# Altium footprint library pcb_component.PcbLib: 38 footprints (part 1 of 3)
Each footprint in its own frame and in the unit in brackets; x right, y up, seen from the top. Pads: shape width x height; smd on the part's side, far side on the other; paste and mask are expansions set on the pad; w line width, h text height; cw(c..) or ccw(c..) is an arc to the next point about the centre after c.
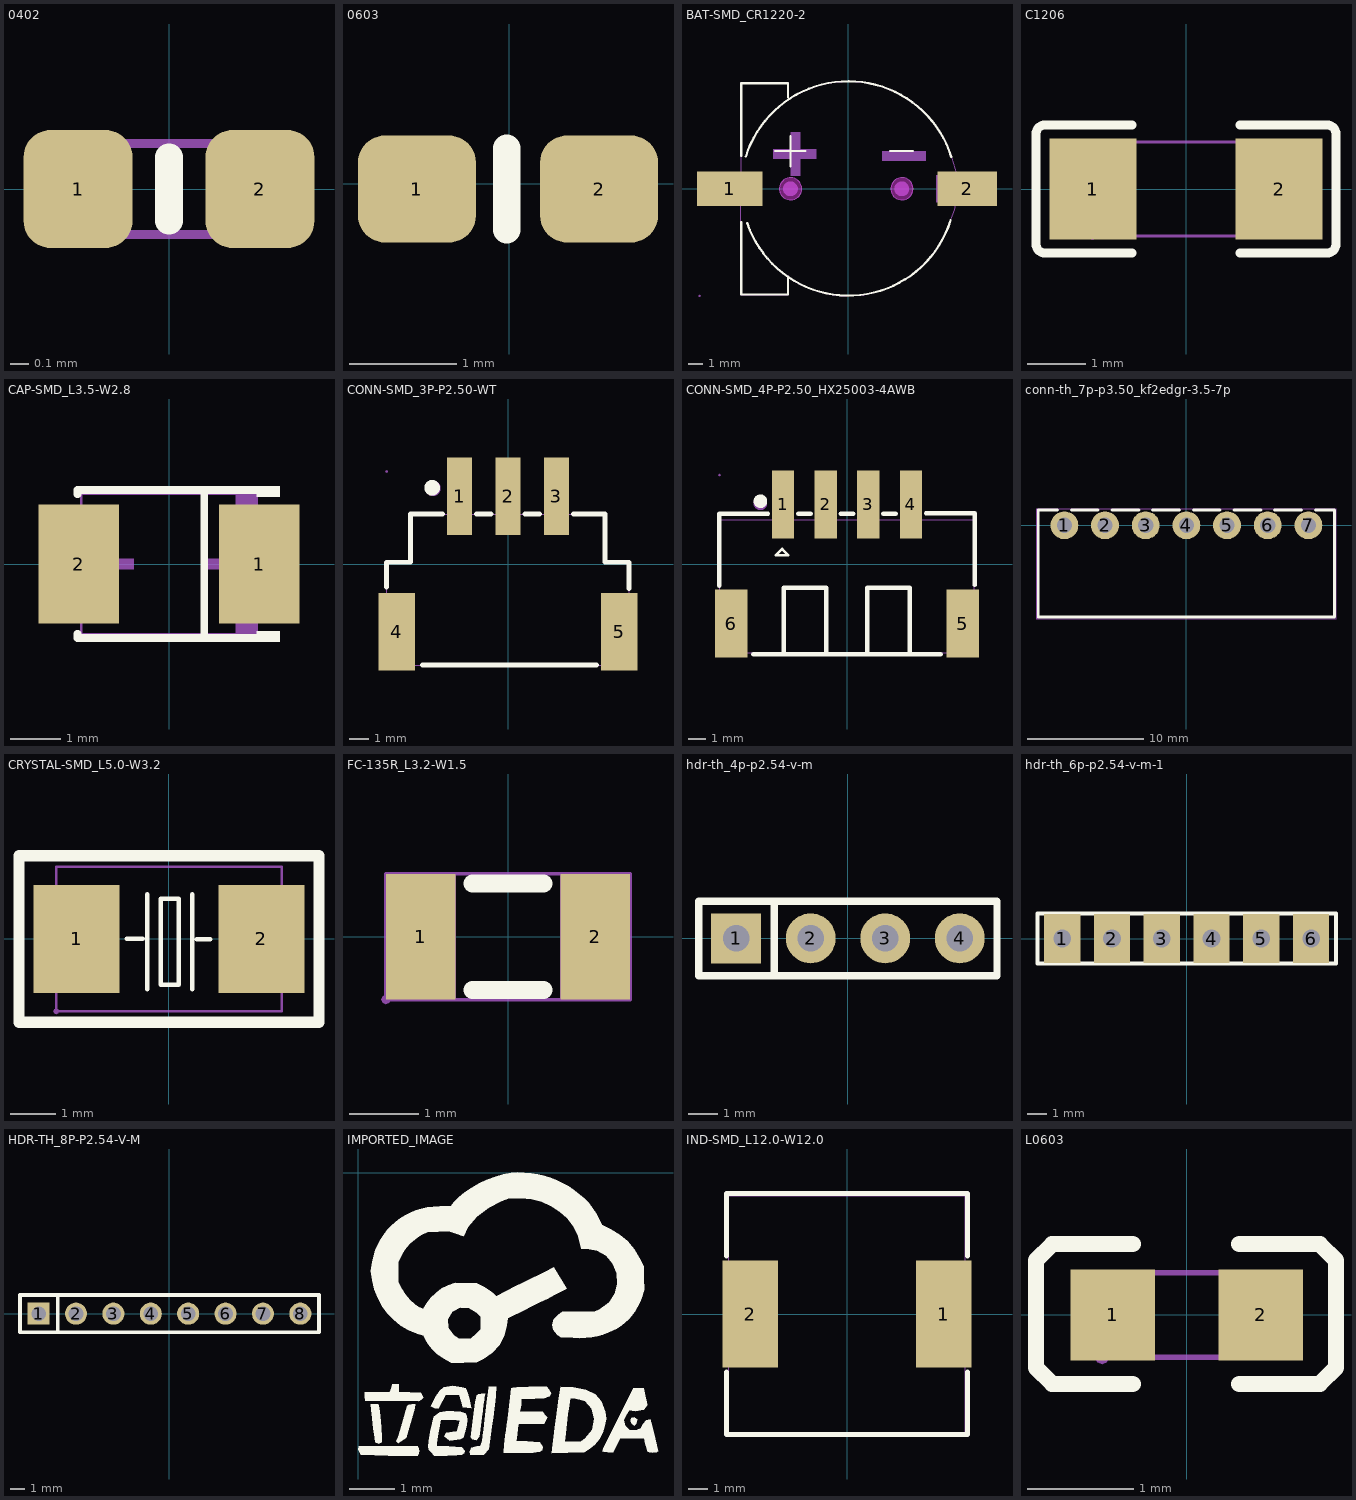
[diagram p0: the footprints below, top view; thin cyan lines are the x and y axes]

## 0402 [mm]
pads (2):
  rrect50% 0.6x0.65 smd paste+0.102 mask+0.051: 1(-0.5,0) 2(0.5,0)
Top Overlay:
  lines w0.152: 0,-0.175 0,0.175
Mechanical 15:
  lines w0.05: -0.5,-0.25 -0.5,0.25 0.5,0.25 0.5,-0.25 -0.5,-0.25

## 0603 [mm]
pads (2):
  rrect50% 1.1x1 smd: 1(-0.864,-0.051) 2(0.836,-0.051)
Top Overlay:
  lines w0.254: -0.025,-0.432 -0.025,0.33

## BAT-SMD_CR1220-2 [mm]
pads (2):
  rect 4.4x2.3 smd paste+0 mask+0.05: 1(-8,0)
  rect 4x2.3 smd paste+0 mask+0.05: 2(8,0)
Top Overlay:
  lines w0.15: -7.22,-2.231 -7.22,-7.112 -4.064,-7.112 -4.064,-5.912 ; -7.22,2.231 -7.22,7.112 -4.064,7.112 -4.064,6.171 ; -6.911,2.175 cw(c0,0) 6.918,2.154 ; -6.815,-2.297 ccw(c0,0) 6.871,-2.124 ; -4.928,2.54 -2.896,2.54 ; -3.912,1.524 -3.912,3.556 ; 2.819,2.54 4.343,2.54
Keep-Out Layer:
  board cut-out: -3.9,0.756 -4.096,0.731 -4.278,0.655 -4.435,0.535 -4.555,0.378 -4.631,0.196 -4.656,0 -4.631,-0.196 -4.555,-0.378 -4.435,-0.535 -4.278,-0.655 -4.096,-0.731 -3.9,-0.756 -3.704,-0.731 -3.522,-0.655 -3.365,-0.535 -3.245,-0.378 -3.169,-0.196 -3.143,0 -3.169,0.196 -3.245,0.378 -3.365,0.535 -3.522,0.655 -3.704,0.731
  board cut-out: 3.6,0.756 3.404,0.731 3.222,0.655 3.065,0.535 2.945,0.378 2.869,0.196 2.843,0 2.869,-0.196 2.945,-0.378 3.065,-0.535 3.222,-0.655 3.404,-0.731 3.6,-0.756 3.796,-0.731 3.978,-0.655 4.135,-0.535 4.255,-0.378 4.331,-0.196 4.356,0 4.331,0.196 4.255,0.378 4.135,0.535 3.978,0.655 3.796,0.731
Mechanical 1:
  circle w0.005: c-3.9,0 r0.75
  circle w0.005: c3.6,0 r0.75
Mechanical 6:
  circle w0.5: c-3.912,0 r0.25
  circle w0.5: c3.581,0 r0.25
  region: 2.271,2.516 5.192,2.516 5.192,1.881 2.271,1.881
  region: -3.898,0.873 -3.898,3.794 -3.263,3.794 -3.263,0.873
  region: -5.08,2.667 -2.159,2.667 -2.159,2.032 -5.08,2.032
Mechanical 15:
  region: -10.02,0.9 -6.62,0.9 -6.62,-0.9 -10.02,-0.9
  region: 9.32,-0.9 5.92,-0.9 5.92,0.9 9.32,0.9
  region: -10.02,-7.141 -10.066,-7.16 -10.085,-7.206 -10.066,-7.252 -10.02,-7.271 -9.974,-7.252 -9.955,-7.206 -9.974,-7.16
  lines w0.051: -7.227,7.142 -7.227,-0.511 -7.239,-0.523 -7.239,-7.127 -4.064,-7.127 -4.064,-5.857 -4.04,-5.967 -3.896,-6.049 -3.645,-6.212 -3.131,-6.487 -2.614,-6.711 -2.092,-6.898 -1.568,-7.029 -1.045,-7.132 -0.521,-7.188 0.003,-7.206 0.544,-7.183 1.092,-7.119 2.165,-6.879 3.118,-6.481 3.59,-6.24 4.033,-5.951 4.359,-5.715 4.665,-5.454 4.979,-5.172 5.277,-4.874 5.559,-4.55 5.813,-4.226 6.281,-3.543 6.681,-2.672 6.986,-1.838 7.156,-1.399 7.258,-0.92 7.334,-0.461 7.382,-0.006 7.344,0.515 7.241,1.031 6.938,2.064 6.671,2.831 6.281,3.597 5.711,4.465 5.066,5.174 4.691,5.512 4.304,5.829 3.437,6.38 2.616,6.754 2.202,6.897 1.772,7.015 1.359,7.11 0.92,7.185 0.047,7.243 -0.43,7.221 -0.913,7.183 -1.372,7.108 -1.822,7.001 -2.26,6.874 -2.705,6.719 -3.533,6.328 -3.737,6.213 -3.892,6.12 -4.034,6.026 -4.029,6.158 -4.029,7.138 -4.025,7.143 -7.227,7.143 ; -7.227,7.142 -7.227,7.143
Multi-Layer:
  pour cut-out: -3.9,0.756 -4.096,0.731 -4.278,0.655 -4.435,0.535 -4.555,0.378 -4.631,0.196 -4.656,0 -4.631,-0.196 -4.555,-0.378 -4.435,-0.535 -4.278,-0.655 -4.096,-0.731 -3.9,-0.756 -3.704,-0.731 -3.522,-0.655 -3.365,-0.535 -3.245,-0.378 -3.169,-0.196 -3.143,0 -3.169,0.196 -3.245,0.378 -3.365,0.535 -3.522,0.655 -3.704,0.731
  pour cut-out: 3.6,0.756 3.404,0.731 3.222,0.655 3.065,0.535 2.945,0.378 2.869,0.196 2.843,0 2.869,-0.196 2.945,-0.378 3.065,-0.535 3.222,-0.655 3.404,-0.731 3.6,-0.756 3.796,-0.731 3.978,-0.655 4.135,-0.535 4.255,-0.378 4.331,-0.196 4.356,0 4.331,0.196 4.255,0.378 4.135,0.535 3.978,0.655 3.796,0.731

## C1206 [mm]
pads (2):
  rect 1.485x1.728 smd paste-100 mask+0.051: 1(-1.593,0) 2(1.593,0)
Top Overlay:
  lines w0.152: -0.926,-1.093 -2.411,-1.093 cw(c-2.411,-0.94) -2.564,-0.94 -2.564,0.94 cw(c-2.411,0.94) -2.411,1.093 -0.926,1.093 ; 0.926,-1.093 2.411,-1.093 ccw(c2.411,-0.94) 2.564,-0.94 2.564,0.94 ccw(c2.411,0.94) 2.411,1.093 0.926,1.093
Top Paste:
  region: 0.85,-0.764 0.85,-0.394 0.95,-0.294 1.255,-0.294 1.355,-0.194 1.355,0.194 1.255,0.294 0.95,0.294 0.85,0.394 0.85,0.764 0.95,0.864 2.235,0.864 2.335,0.764 2.335,-0.764 2.235,-0.864 0.95,-0.864
  region: -0.85,-0.764 -0.85,-0.394 -0.95,-0.294 -1.255,-0.294 -1.355,-0.194 -1.355,0.194 -1.255,0.294 -0.95,0.294 -0.85,0.394 -0.85,0.764 -0.95,0.864 -2.235,0.864 -2.335,0.764 -2.335,-0.764 -2.235,-0.864 -0.95,-0.864
Mechanical 15:
  region: -1.665,-0.8 -1.646,-0.846 -1.6,-0.865 -1.554,-0.846 -1.535,-0.8 -1.554,-0.754 -1.6,-0.735 -1.646,-0.754
  region: -1.6,-0.8 -1.6,0.8 -1.1,0.8 -1.1,-0.8
  region: 1.6,-0.8 1.6,0.8 1.1,0.8 1.1,-0.8
  lines w0.051: -1.6,-0.8 -1.6,0.8 1.6,0.8 1.6,-0.8 -1.6,-0.8

## CAP-SMD_L3.5-W2.8 [mm]
pads (2):
  rect 1.607x2.376 smd paste+0 mask+0.051: 1(1.804,0) 2(-1.804,0)
Top Overlay:
  region: 1.75,-1.552 1.75,-1.34 2.207,-1.34 2.207,-1.552
  region: 1.75,1.552 1.75,1.34 2.207,1.34 2.207,1.552
  lines w0.152: -1.826,-1.391 -1.826,-1.476 1.826,-1.476 ; -1.826,1.391 -1.826,1.476 1.826,1.476 ; 0.704,-1.476 0.704,1.476
Mechanical 6:
  region: 1.75,1.4 1.75,0.7 1.33,0.7 1.33,1.4
  region: 1.75,-1.4 1.75,-0.7 1.33,-0.7 1.33,-1.4
  region: 1.225,-0.7 1.225,0.7 1.015,0.7 1.015,-0.7
  region: 1.54,-0.105 1.54,0.105 0.7,0.105 0.7,-0.105
  region: -1.54,-0.105 -1.54,0.105 -0.7,0.105 -0.7,-0.105
Mechanical 15:
  region: 1.75,1.335 1.796,1.354 1.815,1.4 1.796,1.446 1.75,1.465 1.704,1.446 1.685,1.4 1.704,1.354
  region: 1.75,-1.1 1.75,1.1 1,1.1 1,-1.1
  region: -1.75,-1.1 -1.75,1.1 -1,1.1 -1,-1.1
  lines w0.051: -1.75,-1.4 -1.75,1.4 1.75,1.4 1.75,-1.4 -1.75,-1.4

## CONN-SMD_3P-P2.50-WT [mm]
pads (5):
  rect 1.3x4 smd paste+0 mask+0.051: 1(-2.5,3.5) 2(0,3.5) 3(2.5,3.5)
  rect 1.9x4 smd paste+0 mask+0.051: 4(-5.75,-3.5) 5(5.75,-3.5)
Top Overlay:
  circle w0.4: c-3.92,3.94 r0.2
  lines w0.254: -6.28,-1.18 -6.28,0.09 -5.04,0.09 -5.04,2.58 -3.381,2.58 ; -4.42,-5.22 4.58,-5.22 ; -1.619,2.58 -0.881,2.58 ; 0.881,2.58 1.619,2.58 ; 3.381,2.58 5.02,2.58 5.02,0.09 6.26,0.09 6.26,-1.28
Mechanical 6:
  circle w0.4: c-3.88,3.91 r0.2
Mechanical 15:
  region: -6.335,4.78 -6.316,4.826 -6.27,4.845 -6.224,4.826 -6.205,4.78 -6.224,4.734 -6.27,4.715 -6.316,4.734
  region: -0.32,4.78 0.32,4.78 0.32,1.78 -0.32,1.78
  region: -2.82,4.78 -2.18,4.78 -2.18,1.78 -2.82,1.78
  region: 5.55,-1.72 5.95,-1.72 5.95,-5.22 5.55,-5.22
  region: -5.95,-1.72 -5.55,-1.72 -5.55,-5.22 -5.95,-5.22
  region: 2.18,4.78 2.82,4.78 2.82,1.78 2.18,1.78
  lines w0.051: -6.27,-4.52 -5.42,-4.52 -5.41,-4.53 -5.42,-5.22 5.42,-5.22 5.42,-5.16 5.42,-4.52 6.27,-4.52 6.27,0.08 5.01,0.08 5.01,2.58 -5.01,2.58 -5.01,0.08 -6.27,0.08 -6.27,-4.52

## CONN-SMD_4P-P2.50_HX25003-4AWB [mm]
pads (6):
  rect 1.3x4 smd paste+0 mask+0.051: 1(-3.75,3.5) 2(-1.25,3.5) 3(1.25,3.5) 4(3.75,3.5)
  rect 1.9x4 smd paste+0 mask+0.051: 5(6.8,-3.5) 6(-6.8,-3.5)
Top Overlay:
  circle w0.4: c-5.08,3.683 r0.2
  lines w0.15: -4.191,0.508 -3.438,0.508 -3.81,0.889 -4.191,0.508
  lines w0.254: -7.5,-1.269 -7.5,2.95 -4.631,2.95 ; -5.5,-5.3 5.5,-5.3 ; -3.709,-5.3 -3.709,-1.397 -1.223,-1.397 -1.223,-5.3 ; -2.869,2.95 -2.131,2.95 ; -0.369,2.95 0.369,2.95 ; 1.197,-5.266 1.197,-1.397 3.683,-1.397 3.683,-5.266 ; 2.131,2.95 2.869,2.95 ; 4.631,2.984 7.5,2.984 7.5,-1.235
Mechanical 6:
  circle w0.4: c-5.08,3.556 r0.2
Mechanical 15:
  region: -7.41,5.22 -7.429,5.174 -7.475,5.155 -7.521,5.174 -7.54,5.22 -7.521,5.266 -7.475,5.285 -7.429,5.266
  region: 3.45,5.22 4.05,5.22 4.05,2.22 3.45,2.22
  region: 0.95,5.22 1.55,5.22 1.55,2.22 0.95,2.22
  region: -1.55,5.22 -0.95,5.22 -0.95,2.22 -1.55,2.22
  region: -4.05,5.22 -3.45,5.22 -3.45,2.22 -4.05,2.22
  region: 6.4,-2 6.8,-2 6.8,-5 6.4,-5
  region: -6.8,-2 -6.4,-2 -6.4,-5 -6.8,-5
  lines w0.051: -7.475,-5.208 -7.475,2.592 7.475,2.592 7.475,-5.208 -7.475,-5.208

## conn-th_7p-p3.50_kf2edgr-3.5-7p [mm]
pads (7):
  round 2.4 / inner round 1.524 / far side round 1.524 hole 1.3 paste+0 mask+0.051: 1(-10.5,0) 2(-7,0) 3(-3.5,0) 4(0,0) 5(3.5,0) 6(7,0) 7(10.5,0)
Top Overlay:
  lines w0.254: -11.095,1.3 -12.75,1.3 -12.75,-7.9 12.75,-7.9 12.75,1.3 11.095,1.3 ; -9.905,1.3 -7.595,1.3 ; -6.405,1.3 -4.095,1.3 ; -2.905,1.3 -0.595,1.3 ; 0.595,1.3 2.905,1.3 ; 4.095,1.3 6.405,1.3 ; 7.595,1.3 9.905,1.3
Mechanical 15:
  drawing of 12 lines, arcs and shapes, not listed

## CRYSTAL-SMD_L5.0-W3.2 [mm]
pads (2):
  rect 1.9x2.4 smd paste+0 mask+0.051: 1(-2.05,0) 2(2.05,0)
Top Overlay:
  lines w0.1: -0.94,0 -0.584,0 ; -0.483,-1.109 -0.483,0.991 ; 0.517,-1.109 0.517,0.991 ; 0.617,-0.009 0.917,-0.009 ; -0.183,-1.009 -0.183,0.89 0.217,0.89 0.217,-1.009 -0.183,-1.009
  lines w0.254: -3.325,-1.85 3.325,-1.85 3.325,-0.7 3.325,0.7 3.325,1.85 -3.325,1.85 -3.325,0.7 -3.325,-0.7 -3.325,-1.85
Mechanical 15:
  region: -2.565,-1.6 -2.546,-1.646 -2.5,-1.665 -2.454,-1.646 -2.435,-1.6 -2.454,-1.554 -2.5,-1.535 -2.546,-1.554
  region: -2.4,1 -1.3,1 -1.3,-1 -2.4,-1
  region: 1.3,1 2.4,1 2.4,-1 1.3,-1
  lines w0.051: -2.5,-1.6 -2.5,1.6 2.5,1.6 2.5,-1.6 -2.5,-1.6

## FC-135R_L3.2-W1.5 [mm]
pads (2):
  rect 1x1.8 smd paste+0 mask+0.051: 1(-1.25,0) 2(1.25,0)
Top Overlay:
  lines w0.254: -0.508,-0.762 0.508,-0.762 ; -0.508,0.762 0.508,0.762
Mechanical 15:
  region: -1.75,-0.835 -1.796,-0.854 -1.815,-0.9 -1.796,-0.946 -1.75,-0.965 -1.704,-0.946 -1.685,-0.9 -1.704,-0.854
  region: -1.75,-0.9 -1.75,0.9 -0.75,0.9 -0.75,-0.9
  region: 0.75,-0.9 0.75,0.9 1.75,0.9 1.75,-0.9
  lines w0.051: -1.75,-0.9 1.75,-0.9 1.75,0.9 -1.75,0.9 -1.75,-0.9

## hdr-th_4p-p2.54-v-m [mm]
pads (4):
  rect 1.7x1.7 / inner round 1.524 / far side round 1.524 hole 0.9 paste+0 mask+0.051: 1(-3.81,0)
  round 1.7 / inner round 1.524 / far side round 1.524 hole 0.9 paste+0 mask+0.051: 2(-1.27,0) 3(1.27,0) 4(3.81,0)
Top Overlay:
  lines w0.254: -2.516,-1.27 -2.516,1.27 ; -2.516,1.27 5.08,1.27 5.08,-1.27 -5.08,-1.27 -5.08,1.27 -2.516,1.27
Mechanical 15:
  region: -5.08,-1.315 -5.034,-1.296 -5.015,-1.25 -5.034,-1.204 -5.08,-1.185 -5.126,-1.204 -5.145,-1.25 -5.126,-1.296
  region: -4.13,0.32 -3.49,0.32 -3.49,-0.32 -4.13,-0.32
  region: -1.59,0.32 -0.95,0.32 -0.95,-0.32 -1.59,-0.32
  region: 0.95,0.32 1.59,0.32 1.59,-0.32 0.95,-0.32
  region: 3.49,0.32 4.13,0.32 4.13,-0.32 3.49,-0.32
  lines w0.051: -5.08,-1.25 -5.08,1.25 5.08,1.25 5.08,-1.25 -5.08,-1.25

## hdr-th_6p-p2.54-v-m-1 [mm]
pads (6):
  rect 1.85x2.5 / inner round 1.524 / far side round 1.524 hole 0.9 paste+0 mask+0.051: 1(-6.35,0) 2(-3.81,0) 3(-1.27,0) 4(1.27,0) 5(3.81,0) 6(6.35,0)
Top Overlay:
  lines w0.203: -7.62,-1.27 7.62,-1.27 7.62,1.27 -5.715,1.27 -7.62,1.27 -7.62,-1.27
Mechanical 15:
  region: 6.03,0.32 6.67,0.32 6.67,-0.32 6.03,-0.32
  region: 3.49,0.32 4.13,0.32 4.13,-0.32 3.49,-0.32
  region: 0.95,0.32 1.59,0.32 1.59,-0.32 0.95,-0.32
  region: -1.59,0.32 -0.95,0.32 -0.95,-0.32 -1.59,-0.32
  region: -4.13,0.32 -3.49,0.32 -3.49,-0.32 -4.13,-0.32
  region: -6.67,0.32 -6.03,0.32 -6.03,-0.32 -6.67,-0.32
  region: -7.555,-1.25 -7.574,-1.204 -7.62,-1.185 -7.666,-1.204 -7.685,-1.25 -7.666,-1.296 -7.62,-1.315 -7.574,-1.296
  lines w0.051: -7.62,-1.25 -7.62,1.25 7.62,1.25 7.62,-1.25 -7.62,-1.25

## HDR-TH_8P-P2.54-V-M [mm]
pads (8):
  rect 1.5x1.5 / inner round 1.524 / far side round 1.524 hole 1 paste+0 mask+0.051: 1(-8.89,0)
  round 1.5 / inner round 1.524 / far side round 1.524 hole 1 paste+0 mask+0.051: 2(-6.35,0) 3(-3.81,0) 4(-1.27,0) 5(1.27,0) 6(3.81,0) 7(6.35,0) 8(8.89,0)
Top Overlay:
  lines w0.254: -7.596,-1.27 -7.596,1.27 ; -10.16,-1.27 -10.16,1.27 10.16,1.27 10.16,-1.27 -10.16,-1.27
Mechanical 15:
  region: 8.57,0.32 9.21,0.32 9.21,-0.32 8.57,-0.32
  region: 6.03,0.32 6.67,0.32 6.67,-0.32 6.03,-0.32
  region: 3.49,0.32 4.13,0.32 4.13,-0.32 3.49,-0.32
  region: 0.95,0.32 1.59,0.32 1.59,-0.32 0.95,-0.32
  region: -1.59,0.32 -0.95,0.32 -0.95,-0.32 -1.59,-0.32
  region: -4.13,0.32 -3.49,0.32 -3.49,-0.32 -4.13,-0.32
  region: -6.67,0.32 -6.03,0.32 -6.03,-0.32 -6.67,-0.32
  region: -9.21,0.32 -8.57,0.32 -8.57,-0.32 -9.21,-0.32
  region: -10.16,-1.185 -10.206,-1.204 -10.225,-1.25 -10.206,-1.296 -10.16,-1.315 -10.114,-1.296 -10.095,-1.25 -10.114,-1.204
  lines w0.051: -10.16,-1.25 10.16,-1.25 10.16,1.25 -10.16,1.25 -10.16,-1.25

## IMPORTED_IMAGE [mm]
Top Overlay:
  drawing of 13 lines, arcs and shapes, not listed

## IND-SMD_L12.0-W12.0 [mm]
pads (2):
  rect 2.8x5.4 smd paste+0 mask+0.051: 1(4.9,0) 2(-4.9,0)
Top Overlay:
  lines w0.254: -6.096,-2.931 -6.096,-6.096 6.096,-6.096 6.096,-2.931 ; -6.096,2.931 -6.096,6.096 6.096,6.096 6.096,2.931
Mechanical 15:
  region: 6,6.065 5.954,6.046 5.935,6 5.954,5.954 6,5.935 6.046,5.954 6.065,6 6.046,6.046
  region: 6,2.1 6,-2.1 4,-2.1 4,2.1
  region: -4,2.1 -4,-2.1 -6,-2.1 -6,2.1
  lines w0.051: -6,-6 -6,6 6,6 6,-6 -6,-6

## L0603 [mm]
pads (2):
  rect 0.8x0.864 smd paste-100 mask+0.051: 1(-0.7,0) 2(0.7,0)
Top Overlay:
  lines w0.152: -0.51,-0.651 -1.272,-0.651 -1.424,-0.499 -1.424,0.517 -1.272,0.67 -0.51,0.67 ; 0.496,-0.651 1.258,-0.651 1.411,-0.499 1.411,0.517 1.258,0.67 0.496,0.67
Top Paste:
  region: -0.252,0.143 -0.252,-0.134 -0.526,-0.427 -1.029,-0.427 -1.093,-0.363 -1.093,0.373 -1.029,0.437 -0.526,0.437
  region: 0.264,0.154 0.264,-0.122 0.538,-0.416 1.042,-0.416 1.106,-0.352 1.106,0.384 1.042,0.448 0.538,0.448
Mechanical 15:
  region: -0.8,-0.465 -0.754,-0.446 -0.735,-0.4 -0.754,-0.354 -0.8,-0.335 -0.846,-0.354 -0.865,-0.4 -0.846,-0.446
  region: 0.8,-0.4 0.5,-0.4 0.5,0.4 0.8,0.4
  region: -0.5,-0.4 -0.8,-0.4 -0.8,0.4 -0.5,0.4
  lines w0.051: -0.8,-0.4 0.8,-0.4 0.8,0.4 -0.8,0.4 -0.8,-0.4